# EAGLE library part P9813SSOP16 (library SPCoast)
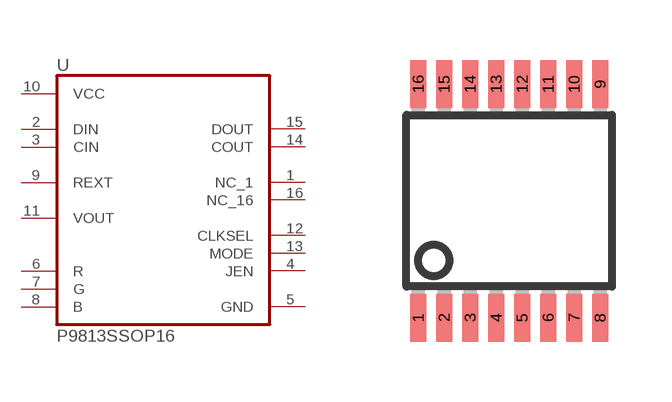
[diagram p68: symbol with the pads of SSOP16; footprint SSOP16]

Designator prefix -

## P9813SSOP16SS16  [SSOP16]
1  NC_1
2  DIN  in
3  CIN  in
4  JEN
5  GND
6  R  in
7  G  in
8  B  in
9  REXT  out
10  VCC
11  VOUT  out
12  CLKSEL  out
13  MODE
14  COUT  in
15  DOUT  in
16  NC_16

## Footprint SSOP16 (pad centres in mm)
Small Shrink Outline Package
smd 0.4 x 1.2: 1 -2.275,-2.925; 2 -1.625,-2.925; 3 -0.975,-2.925; 4 -0.325,-2.925; 5 0.325,-2.925; 6 0.975,-2.925; 7 1.625,-2.925; 8 2.275,-2.925; 9 2.275,2.925; 10 1.625,2.925; 11 0.975,2.925; 12 0.325,2.925; 13 -0.325,2.925; 14 -0.975,2.925; 15 -1.625,2.925; 16 -2.275,2.925